# EAGLE library part SLG47004V (library GREENPAK)
SLG47004V
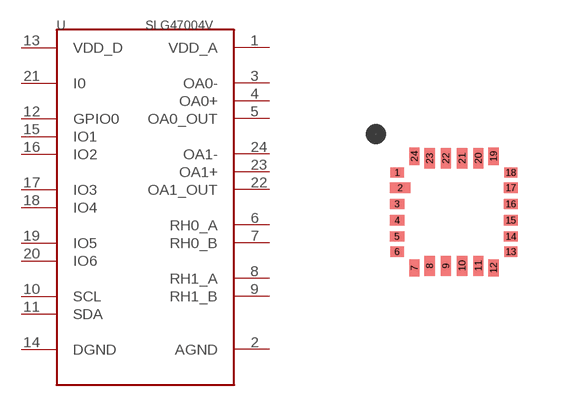
[diagram p50: symbol with the pads of STQFN-24-3.0X3.0-A; footprint STQFN-24-3.0X3.0-A]

Designator prefix -

## SLG47004V  [STQFN-24-3.0X3.0-A]
1  VDD_A  pwr
2  AGND  pwr
3  OA0-  in
4  OA0+  in
5  OA0_OUT  in
6  RH0_A  pas
7  RH0_B  pas
8  RH1_A  pas
9  RH1_B  pas
10  SCL  oc
11  SDA  oc
12  GPIO0
13  VDD_D  pwr
14  DGND  pwr
15  IO1
16  IO2
17  IO3
18  IO4
19  IO5
20  IO6
21  I0  in
22  OA1_OUT  out
23  OA1+
24  OA1-  in

## Footprint STQFN-24-3.0X3.0-A (pad centres in mm)
smd 0.33 x 0.254: 1 -1.424,0.996; 6 -1.424,-0.986; 13 1.42,-0.986; 18 1.42,0.996
smd 0.508 x 0.254: 2 -1.348,0.615
smd 0.356 x 0.254: 3 -1.424,0.208; 4 -1.424,-0.198; 5 -1.424,-0.605; 14 1.42,-0.605; 15 1.42,-0.198; 16 1.42,0.208; 17 1.42,0.615
smd 0.254 x 0.432: 7 -0.993,-1.392; 12 0.989,-1.392; 19 0.989,1.402; 24 -0.993,1.402
smd 0.254 x 0.508: 8 -0.612,-1.341; 9 -0.205,-1.341; 10 0.201,-1.341; 11 0.608,-1.341; 20 0.608,1.351; 21 0.201,1.351; 22 -0.205,1.351; 23 -0.612,1.351